# Altium schematic symbol library COPAL_trimmer_10k_smd.SchLib: 1 symbol
Pins are listed as number, name and electrical type; pins without a type are passive.

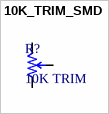
[diagram p0: symbol 10K_TRIM_SMD]

## 10K_TRIM_SMD
designator R?, comment 10K TRIM
TRIMMER 10K OHM 0.25W SMD; Supplier 1: Digikey; Supplier Part Number 1: ST4ETA103CT-ND
footprint 10K_TRIM_SMD (10K Trim-Pot, 3 J-lead SMD)
pins: 1, 2, 3